# Altium footprint library 2019-05-28_18-29-28.PcbLib: 1 footprints
Each footprint in its own frame and in the unit in brackets; x right, y up, seen from the top. Pads: shape width x height; smd on the part's side, far side on the other; paste and mask are expansions set on the pad; w line width, h text height; cw(c..) or ccw(c..) is an arc to the next point about the centre after c.
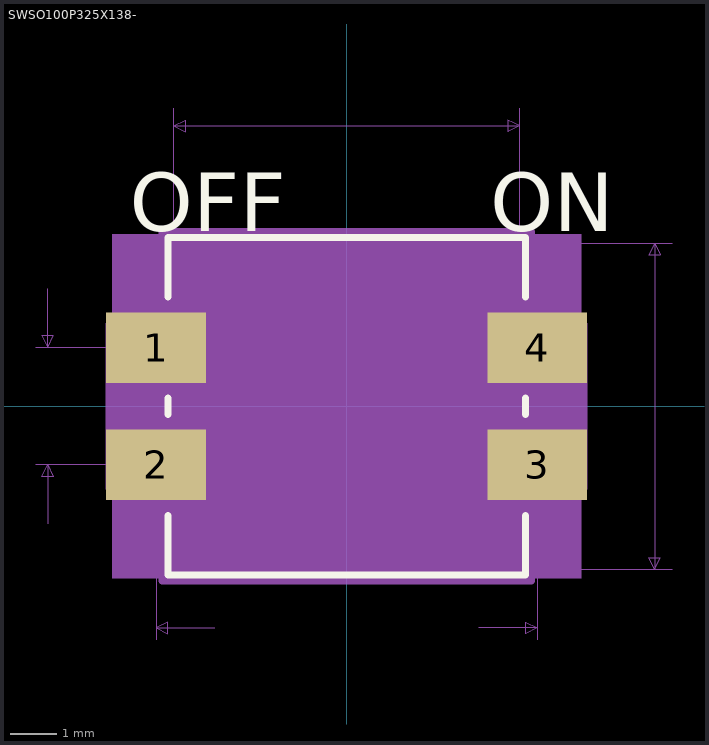
[diagram p0: the footprint, top view; thin cyan lines are the x and y axes]

## SWSO100P325X138- [mil]
pads (4):
  rect 85x60 smd paste+0 mask+0: 1(-162.5,50) 2(-162.5,-50) 3(162.5,-50) 4(162.5,50)
Top Overlay:
  lines w6: -152.5,-93.1 -152.5,-144 152.5,-144 152.5,-93.1 ; -152.5,-6.9 -152.5,6.9 ; -152.5,93.1 -152.5,144 152.5,144 152.5,93.1 ; 152.5,-6.9 152.5,6.9
  text "ON" at 122.5,149 h50
  text "OFF" at -185,149 h50
Mechanical 5:
  region: 200,-146.5 -200,-146.5 -200,146.5 200,146.5
Mechanical 7:
  lines w1: -265,-50 -162.5,-50 -162.5,-199 ; -265,50 -162.5,50 ; -255,-100 -255,-50 ; -255,100 -255,50 ; -147.5,50 -147.5,254 ; -112.5,-189 -162.5,-189 ; 112.5,-189 162.5,-189 ; 147.5,50 147.5,254 ; 162.5,-199 162.5,-50 ; 162.5,-139 277.5,-139 ; 162.5,139 277.5,139 ; -255,-50 -250,-60 -260,-60 -255,-50 ; -255,50 -250,60 -260,60 -255,50 ; -162.5,-189 -152.5,-194 -152.5,-184 -162.5,-189 ; -147.5,239 147.5,239 ; -147.5,239 -137.5,244 -137.5,234 -147.5,239 ; 147.5,239 137.5,244 137.5,234 147.5,239 ; 162.5,-189 152.5,-194 152.5,-184 162.5,-189 ; 262.5,-139 262.5,139 ; 262.5,-139 257.5,-129 267.5,-129 262.5,-139 ; 262.5,139 257.5,129 267.5,129 262.5,139
  text "Default Padstyle: OX60Y20D0T" at -350,-399 h50
  text "Alt 1 Padstyle: OX60Y90D30P" at -337.5,-579 h50
  text "Alt 2 Padstyle: OX90Y60D30P" at -337.5,-639 h50
  text "0.295in/7.493mm" at -93.75,259 h25
  text "0.278in/7.061mm" at 282.5,-12.5 h25
Mechanical 13:
  region: 0,40 0,60 73.75,60 73.75,40
  region: 0,-60 0,-40 73.75,-40 73.75,-60
  lines w0: -12,139 ccw(c0,139) 12,139
  lines w1: -147.5,-139 147.5,-139 147.5,139 -147.5,139 -147.5,-139 ; -73.75,-60 73.75,-60 73.75,-40 -73.75,-40 -73.75,-60 ; -73.75,40 73.75,40 73.75,60 -73.75,60 -73.75,40
  text "ON" at 122.5,149 h50
  text "OFF" at -185,149 h50
Mechanical 15:
  region: 157.5,-149 -157.5,-149 -157.5,-70 -202.5,-70 -202.5,70 -157.5,70 -157.5,149 157.5,149 157.5,70 202.5,70 202.5,-70 157.5,-70
  lines w6: -202.5,-70 -157.5,-70 -157.5,-149 157.5,-149 157.5,-70 202.5,-70 202.5,70 157.5,70 157.5,149 -157.5,149 -157.5,70 -202.5,70 -202.5,-70
3D body: height 10, standoff 0, extent 0,0 10,10